# Altium footprint library burr-brown (2).PCBLIB: 61 footprints (part 3 of 4)
Each footprint in its own frame and in the unit in brackets; x right, y up, seen from the top. Pads: shape width x height; smd on the part's side, far side on the other; paste and mask are expansions set on the pad; w line width, h text height; cw(c..) or ccw(c..) is an arc to the next point about the centre after c.
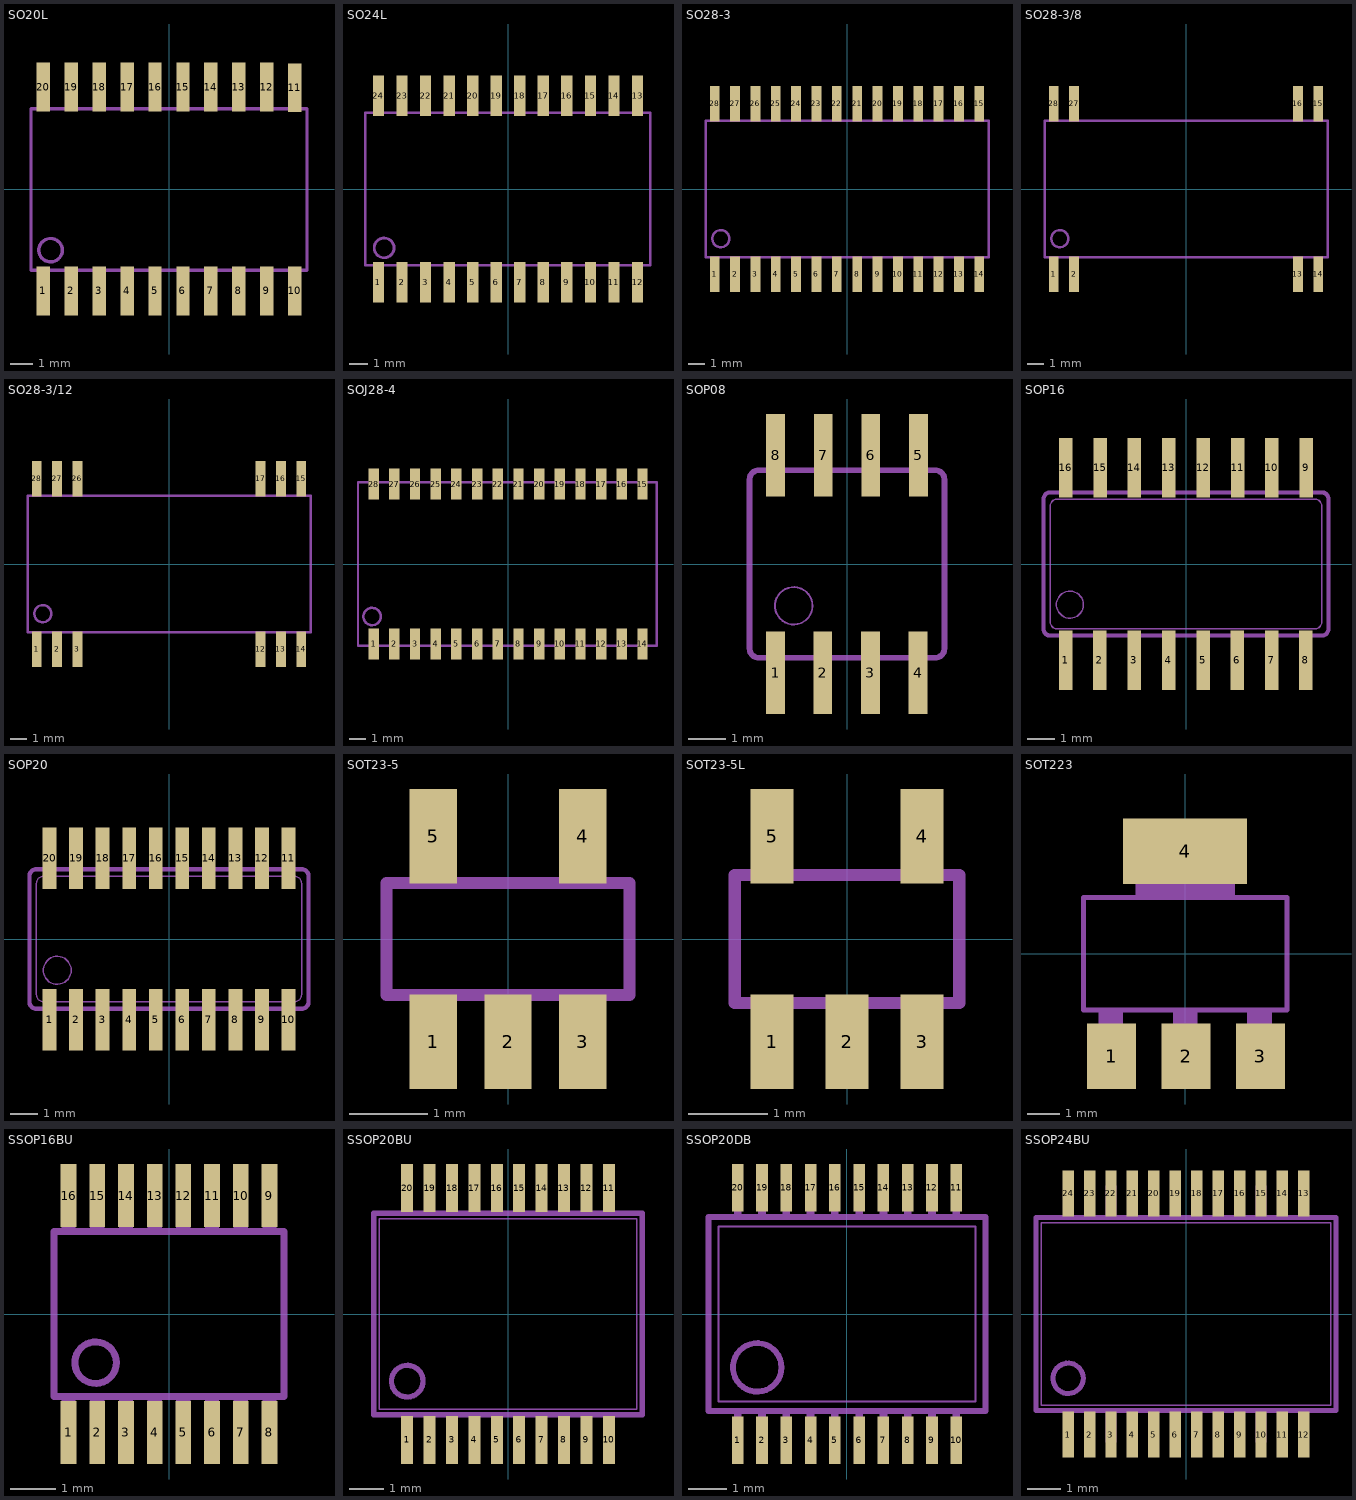
[diagram p2: the footprints below, top view; thin cyan lines are the x and y axes]

## SO20L [mil]
pads (20):
  rect 24x87 smd: 1(-225,-182.5) 2(-175,-182.5) 3(-125,-182.5) 4(-75,-182.5) 5(-25,-182.5) 6(25,-182.5) 7(75,-182.5) 8(125,-182.5) 9(175,-182.5) 10(225,-182.5) 11(225,181.5) 12(175,182.5) 13(125,182.5) 14(75,182.5) 15(25,182.5) 16(-25,182.5) 17(-75,182.5) 18(-125,182.5) 19(-175,182.5) 20(-225,182.5)
Mechanical 2:
  circle w6: c-212,-109.5 r21
  lines w6: -247.01,-145.51 -247.01,143.5 ; 247.01,-145.51 247.01,143.5
Mechanical 18:
  rectangle: 217,145.5 233,197.5
  rectangle: 167,145.5 183,197.5
  rectangle: 117,145.5 133,197.5
  rectangle: 67,145.5 83,197.5
  rectangle: 17,145.5 33,197.5
  rectangle: -33,145.5 -17,197.5
  rectangle: -83,145.5 -67,197.5
  rectangle: -133,145.5 -117,197.5
  rectangle: -183,145.5 -167,197.5
  rectangle: -233,145.5 -217,197.5
  rectangle: 217,-199.5 233,-147.5
  rectangle: 167,-199.5 183,-147.5
  rectangle: 117,-199.5 133,-147.5
  rectangle: 67,-199.5 83,-147.5
  rectangle: 17,-199.5 33,-147.5
  rectangle: -33,-199.5 -17,-147.5
  rectangle: -83,-199.5 -67,-147.5
  rectangle: -133,-199.5 -117,-147.5
  rectangle: -183,-199.5 -167,-147.5
  rectangle: -233,-199.5 -217,-147.5
  lines w6: -247.01,-145.51 247.01,-145.51 ; -247.01,143.5 247.01,143.5

## SO24L [mil]
pads (24):
  rect 24x87 smd: 1(-275,-198) 2(-225,-198) 3(-175,-198) 4(-125,-198) 5(-75,-198) 6(-25,-198) 7(25,-198) 8(75,-198) 9(125,-198) 10(175,-198) 11(225,-198) 12(275,-198) 13(275,198) 14(225,198) 15(175,198) 16(125,198) 17(75,198) 18(25,198) 19(-25,198) 20(-75,198) 21(-125,198) 22(-175,198) 23(-225,198) 24(-275,198)
Mechanical 2:
  circle w6: c-263,-125 r21
  lines w6: -302.99,-162.01 -302.99,162.01 ; 302.01,-162.01 302.01,162.01
Mechanical 18:
  rectangle: -285,-223 -265,-163
  rectangle: -235,-223 -215,-163
  rectangle: -185,-223 -165,-163
  rectangle: -135,-223 -115,-163
  rectangle: -85,-223 -65,-163
  rectangle: -35,-223 -15,-163
  rectangle: 15,-223 35,-163
  rectangle: 65,-223 85,-163
  rectangle: 115,-223 135,-163
  rectangle: 165,-223 185,-163
  rectangle: 215,-223 235,-163
  rectangle: 265,-223 285,-163
  rectangle: 265,163 285,223
  rectangle: 215,163 235,223
  rectangle: 165,163 185,223
  rectangle: 115,163 135,223
  rectangle: 65,163 85,223
  rectangle: 15,163 35,223
  rectangle: -35,163 -15,223
  rectangle: -85,163 -65,223
  rectangle: -135,163 -115,223
  rectangle: -185,163 -165,223
  rectangle: -235,163 -215,223
  rectangle: -285,163 -265,223
  lines w6: -302.99,-162.01 302.01,-162.01 ; -302.99,162.01 302.01,162.01

## SO28-3 [mil]
pads (28):
  rect 24.02x87.01 smd: 1(-325,-209.25) 2(-275,-209.25) 3(-225,-209.25) 4(-175,-209.25) 5(-125,-209.25) 6(-75,-209.25) 7(-25,-209.25) 8(25,-209.25) 9(75,-209.25) 10(125,-209.25) 11(175,-209.25) 12(225,-209.25) 13(275,-209.25) 14(325,-209.25) 15(325,209.25) 16(275,209.25) 17(225,209.25) 18(175,209.25) 19(125,209.25) 20(75,209.25) 21(25,209.25) 22(-25,209.25) 23(-75,209.25) 24(-125,209.25) 25(-175,209.25) 26(-225,209.25) 27(-275,209.25) 28(-325,209.25)
Mechanical 2:
  circle w6: c-310,-122 r21
  lines w6: -347.01,-167.24 -347.01,167.24 ; 347.99,-167.24 347.99,167.24
Mechanical 18:
  rectangle: -335,-228.25 -315,-168.25
  rectangle: -285,-228.25 -265,-168.25
  rectangle: -235,-228.25 -215,-168.25
  rectangle: -185,-228.25 -165,-168.25
  rectangle: -135,-228.25 -115,-168.25
  rectangle: -85,-228.25 -65,-168.25
  rectangle: -35,-228.25 -15,-168.25
  rectangle: 15,-228.25 35,-168.25
  rectangle: 65,-228.25 85,-168.25
  rectangle: 115,-228.25 135,-168.25
  rectangle: 165,-228.25 185,-168.25
  rectangle: 215,-228.25 235,-168.25
  rectangle: 265,-228.25 285,-168.25
  rectangle: 315,-228.25 335,-168.25
  rectangle: 315,168.25 335,228.25
  rectangle: 265,168.25 285,228.25
  rectangle: 215,168.25 235,228.25
  rectangle: 165,168.25 185,228.25
  rectangle: 115,168.25 135,228.25
  rectangle: 65,168.25 85,228.25
  rectangle: 15,168.25 35,228.25
  rectangle: -35,168.25 -15,228.25
  rectangle: -85,168.25 -65,228.25
  rectangle: -135,168.25 -115,228.25
  rectangle: -185,168.25 -165,228.25
  rectangle: -235,168.25 -215,228.25
  rectangle: -285,168.25 -265,228.25
  rectangle: -335,168.25 -315,228.25
  lines w6: -347.01,-167.24 347.99,-167.24 ; -347.01,167.24 347.99,167.24

## SO28-3/8 [mil]
pads (8):
  rect 24.02x87.01 smd: 1(-325,-209.25) 2(-275,-209.25) 13(275,-209.25) 14(325,-209.25) 15(325,209.25) 16(275,209.25) 27(-275,209.25) 28(-325,209.25)
Mechanical 2:
  circle w6: c-310,-122 r21
  lines w6: -347.01,-167.24 -347.01,167.24 ; -257.01,-167.24 257.99,-167.24 ; -257.01,167.24 252.99,167.24 ; 347.99,-167.24 347.99,167.24
Mechanical 18:
  rectangle: -335,-228.25 -315,-168.25
  rectangle: -285,-228.25 -265,-168.25
  rectangle: 265,-228.25 285,-168.25
  rectangle: 315,-228.25 335,-168.25
  rectangle: 315,168.25 335,228.25
  rectangle: 265,168.26 285,228.26
  rectangle: -285,168.26 -265,228.26
  rectangle: -335,168.25 -315,228.25
  lines w6: -347.01,-167.24 -257.01,-167.24 ; -347.01,167.24 -257.01,167.24 ; 252.99,167.24 347.99,167.24 ; 257.99,-167.24 347.99,-167.24

## SO28-3/12 [mil]
pads (12):
  rect 24.02x87.01 smd: 1(-325,-209.25) 2(-275,-209.25) 3(-225,-209.25) 12(225,-209.25) 13(275,-209.25) 14(325,-209.25) 15(325,209.25) 16(275,209.25) 17(225,209.25) 26(-225,209.25) 27(-275,209.25) 28(-325,209.25)
Mechanical 2:
  circle w6: c-310,-122 r21
  lines w6: -347.01,-167.24 -347.01,167.24 ; -207.01,-167.24 207.99,-167.24 ; -202.01,167.24 202.99,167.24 ; 347.99,-167.24 347.99,167.24
Mechanical 18:
  rectangle: -335,-228.25 -315,-168.25
  rectangle: -285,-228.25 -265,-168.25
  rectangle: -235,-228.25 -215,-168.25
  rectangle: 215,-228.25 235,-168.25
  rectangle: 265,-228.25 285,-168.25
  rectangle: 315,-228.25 335,-168.25
  rectangle: 315,168.25 335,228.25
  rectangle: 265,168.25 285,228.25
  rectangle: 215,168.25 235,228.25
  rectangle: -235,168.25 -215,228.25
  rectangle: -285,168.25 -265,228.25
  rectangle: -335,168.25 -315,228.25
  lines w6: -347.01,-167.24 -207.01,-167.24 ; -347.01,167.24 -202.01,167.24 ; 202.99,167.24 347.99,167.24 ; 207.99,-167.24 347.99,-167.24

## SOJ28-4 [mil]
pads (28):
  rect 25x75 smd: 1(-325,-193) 2(-275,-193) 3(-225,-193) 4(-175,-193) 5(-125,-193) 6(-75,-193) 7(-25,-193) 8(25,-193) 9(75,-193) 10(125,-193) 11(175,-193) 12(225,-193) 13(275,-193) 14(325,-193) 15(325,193) 16(275,193) 17(225,193) 18(175,193) 19(125,193) 20(75,193) 21(25,193) 22(-25,193) 23(-75,193) 24(-125,193) 25(-175,193) 26(-225,193) 27(-275,193) 28(-325,193)
Mechanical 2:
  circle w6: c-329,-127 r21
  lines w6: -339.02,-197.99 -362.99,-197.99 -362.99,197.99 -339.02,197.99 ; -310.98,-197.99 -289.02,-197.99 ; -310.98,197.99 -289.02,197.99 ; -260.98,-197.99 -239.02,-197.99 ; -260.98,197.99 -239.02,197.99 ; -210.98,-197.99 -189.02,-197.99 ; -210.98,197.99 -189.02,197.99 ; -160.98,-197.99 -139.02,-197.99 ; -160.98,197.99 -139.02,197.99 ; -110.98,-197.99 -89.02,-197.99 ; -110.98,197.99 -89.02,197.99 ; -60.98,-197.99 -39.02,-197.99 ; -60.98,197.99 -39.02,197.99 ; -10.98,-197.99 10.98,-197.99 ; -10.98,197.99 10.98,197.99 ; 39.02,-197.99 60.98,-197.99 ; 39.02,197.99 60.98,197.99 ; 89.02,-197.99 110.98,-197.99 ; 89.02,197.99 110.98,197.99 ; 139.02,-197.99 160.98,-197.99 ; 139.02,197.99 160.98,197.99 ; 189.02,-197.99 210.98,-197.99 ; 189.02,197.99 210.98,197.99 ; 239.02,-197.99 260.98,-197.99 ; 239.02,197.99 260.98,197.99 ; 289.02,-197.99 310.98,-197.99 ; 289.02,197.99 310.98,197.99 ; 339.02,-197.99 359.02,-197.99 359.02,197.99 339.02,197.99
Mechanical 18:
  rectangle: 315,200 335,220
  rectangle: 318,170 332,200
  rectangle: 315,-220 335,-200
  rectangle: 318,-200 332,-170
  rectangle: 265,200 285,220
  rectangle: 268,170 282,200
  rectangle: 215,200 235,220
  rectangle: 218,170 232,200
  rectangle: 165,200 185,220
  rectangle: 168,170 182,200
  rectangle: 115,200 135,220
  rectangle: 118,170 132,200
  rectangle: 65,200 85,220
  rectangle: 68,170 82,200
  rectangle: 15,200 35,220
  rectangle: 18,170 32,200
  rectangle: -35,200 -15,220
  rectangle: -32,170 -18,200
  rectangle: -185,200 -165,220
  rectangle: -182,170 -168,200
  rectangle: -135,200 -115,220
  rectangle: -132,170 -118,200
  rectangle: -85,200 -65,220
  rectangle: -82,170 -68,200
  rectangle: -235,200 -215,220
  rectangle: -232,170 -218,200
  rectangle: -285,200 -265,220
  rectangle: -282,170 -268,200
  rectangle: -335,200 -315,220
  rectangle: -332,170 -318,200
  rectangle: -335,-220 -315,-200
  rectangle: -332,-200 -318,-170
  rectangle: -285,-220 -265,-200
  rectangle: -282,-200 -268,-170
  rectangle: -235,-220 -215,-200
  rectangle: -232,-200 -218,-170
  rectangle: -185,-220 -165,-200
  rectangle: -182,-200 -168,-170
  rectangle: -135,-220 -115,-200
  rectangle: -132,-200 -118,-170
  rectangle: -85,-220 -65,-200
  rectangle: -82,-200 -68,-170
  rectangle: -35,-220 -15,-200
  rectangle: -32,-200 -18,-170
  rectangle: 15,-220 35,-200
  rectangle: 18,-200 32,-170
  rectangle: 65,-220 85,-200
  rectangle: 68,-200 82,-170
  rectangle: 115,-220 135,-200
  rectangle: 118,-200 132,-170
  rectangle: 165,-220 185,-200
  rectangle: 168,-200 182,-170
  rectangle: 215,-220 235,-200
  rectangle: 218,-200 232,-170
  rectangle: 265,-220 285,-200
  rectangle: 268,-200 282,-170
  lines w6: -339.02,-197.99 -310.98,-197.99 ; -339.02,197.99 -310.98,197.99 ; -289.02,-197.99 -260.98,-197.99 ; -289.02,197.99 -260.98,197.99 ; -239.02,-197.99 -210.98,-197.99 ; -239.02,197.99 -210.98,197.99 ; -189.02,-197.99 -160.98,-197.99 ; -189.02,197.99 -160.98,197.99 ; -139.02,-197.99 -110.98,-197.99 ; -139.02,197.99 -110.98,197.99 ; -89.02,-197.99 -60.98,-197.99 ; -89.02,197.99 -60.98,197.99 ; -39.02,-197.99 -10.98,-197.99 ; -39.02,197.99 -10.98,197.99 ; 10.98,-197.99 39.02,-197.99 ; 10.98,197.99 39.02,197.99 ; 60.98,-197.99 89.02,-197.99 ; 60.98,197.99 89.02,197.99 ; 110.98,-197.99 139.02,-197.99 ; 110.98,197.99 139.02,197.99 ; 160.98,-197.99 189.02,-197.99 ; 160.98,197.99 189.02,197.99 ; 210.98,-197.99 239.02,-197.99 ; 210.98,197.99 239.02,197.99 ; 260.98,-197.99 289.02,-197.99 ; 260.98,197.99 289.02,197.99 ; 310.98,-197.99 339.02,-197.99 ; 310.98,197.99 339.02,197.99

## SOP08 [mil]
pads (8):
  rect 19.69x86.61 smd: 1(-75,-114.17) 2(-25.39,-114.17) 3(24.61,-114.17) 4(74.61,-114.17) 5(75,114.17) 6(25,114.17) 7(-25,114.17) 8(-75,114.17)
Mechanical 2:
  circle w2: c-55.91,-43.9 r19.69
  lines w6: -102.36,-88.58 ccw(c-92.52,-88.58) -92.52,-98.43 ; -102.36,-88.19 -102.36,88.58 cw(c-92.52,88.58) -92.52,98.43 ; -92.13,-98.43 -87.99,-98.43 ; -92.13,98.43 -87.99,98.43 ; -61.61,-98.43 -38.39,-98.43 ; -61.61,98.43 -38.39,98.43 ; -12.01,-98.43 11.61,-98.43 ; -11.61,98.43 11.61,98.43 ; 37.99,-98.43 61.61,-98.43 ; 38.39,98.43 61.61,98.43 ; 87.6,-98.43 91.73,-98.43 ; 87.99,98.43 92.91,98.43 ; 92.52,-98.43 ccw(c92.52,-88.58) 102.36,-88.58 102.36,88.58 ccw(c92.52,88.58) 92.52,98.43
Mechanical 18:
  rectangle: -81.89,98.43 -68.11,133.86
  rectangle: -31.89,98.43 -18.11,133.86
  rectangle: 18.11,98.43 31.89,133.86
  rectangle: 68.11,98.43 81.89,133.86
  rectangle: 67.72,-133.86 81.5,-98.43
  rectangle: 17.72,-133.86 31.5,-98.43
  rectangle: -32.28,-133.86 -18.5,-98.43
  rectangle: -81.89,-133.86 -68.11,-98.43
  lines w6: -92.13,-98.43 92.91,-98.43 ; -92.13,98.43 92.91,98.43

## SOP16 [mil]
pads (16):
  rect 19.69x86.61 smd: 1(-175,-139.76) 2(-125.39,-139.76) 3(-75.39,-139.76) 4(-25.39,-139.76) 5(25,-139.76) 6(74.61,-139.76) 7(124.61,-139.76) 8(174.61,-139.76) 9(175,139.76) 10(125,139.76) 11(75,139.76) 12(25,139.76) 13(-25,139.76) 14(-75,139.76) 15(-125,139.76) 16(-175,139.76)
Mechanical 2:
  circle w2: c-168.9,-59.06 r19.69
  lines w2: -197.44,-84.76 -197.44,-84.64 ; -187.6,-94.48 cw(c-187.6,-84.64) -197.44,-84.64 ; -187.48,-94.49 187.6,-94.49 ccw(c187.6,-84.65) 197.44,-84.65 197.44,84.65 ccw(c187.6,84.65) 187.6,94.49 -187.56,94.49 ccw(c-187.6,84.65) -197.44,84.65 -197.44,-84.64
  lines w6: -198.82,104.33 -187.99,104.33 ; -197.44,-104.33 cw(c-197.54,-94.33) -197.64,-104.33 ; -197.44,104.33 ccw(c-197.44,94.49) -207.28,94.49 -207.28,-94.49 ccw(c-197.44,-94.49) -197.64,-104.33 ; -187.99,-104.33 -197.64,-104.33 ; -162.01,-104.33 -138.39,-104.33 ; -162.01,104.33 -137.99,104.33 ; -112.4,-104.33 -88.39,-104.33 ; -112.01,104.33 -87.99,104.33 ; -62.4,-104.33 -38.39,-104.33 ; -62.01,104.33 -37.99,104.33 ; -12.4,-104.33 12.01,-104.33 ; -12.01,104.33 12.01,104.33 ; 37.99,-104.33 61.61,-104.33 ; 37.99,104.33 62.01,104.33 ; 87.6,-104.33 111.61,-104.33 ; 87.99,104.33 112.01,104.33 ; 137.6,-104.33 161.61,-104.33 ; 137.99,104.33 162.01,104.33 ; 187.6,-104.33 197.24,-104.33 ; 187.99,104.33 197.64,104.33 ; 197.44,-104.33 ccw(c197.44,-94.49) 207.28,-94.49 207.28,94.49 ccw(c197.44,94.49) 197.64,104.33 ; 197.44,104.33 cw(c197.54,94.33) 197.64,104.33
Mechanical 18:
  rectangle: -182.87,104.33 -167.13,159.45
  rectangle: -132.87,104.33 -117.13,159.45
  rectangle: -82.87,104.33 -67.13,159.45
  rectangle: -32.87,104.33 -17.13,159.45
  rectangle: 17.13,104.33 32.87,159.45
  rectangle: 67.13,104.33 82.87,159.45
  rectangle: 117.13,104.33 132.87,159.45
  rectangle: 167.13,104.33 182.87,159.45
  rectangle: 166.73,-159.45 182.48,-104.33
  rectangle: 116.73,-159.45 132.48,-104.33
  rectangle: 66.73,-159.45 82.48,-104.33
  rectangle: 17.13,-159.45 32.87,-104.33
  rectangle: -33.27,-159.45 -17.52,-104.33
  rectangle: -83.27,-159.45 -67.52,-104.33
  rectangle: -133.27,-159.45 -117.52,-104.33
  rectangle: -182.87,-159.45 -167.13,-104.33
  lines w6: -197.44,-104.33 197.44,-104.33 ; -197.44,104.33 197.44,104.33

## SOP20 [mil]
pads (20):
  rect 19.69x86.61 smd: 1(-168.31,-114.17) 2(-130.91,-114.17) 3(-93.5,-114.17) 4(-56.1,-114.17) 5(-18.7,-114.17) 6(18.7,-114.17) 7(56.1,-114.17) 8(93.5,-114.17) 9(130.91,-114.17) 10(168.31,-114.17) 11(168.31,114.17) 12(130.91,114.17) 13(93.5,114.17) 14(56.1,114.17) 15(18.7,114.17) 16(-18.7,114.17) 17(-56.1,114.17) 18(-93.5,114.17) 19(-130.91,114.17) 20(-168.31,114.17)
Mechanical 2:
  circle w2: c-157.64,-44.21 r19.69
  lines w2: -187.01,-78.74 -187.01,78.74 ; -156.5,-88.58 -142.72,-88.58 ; -156.5,88.58 -142.72,88.58 ; -119.09,-88.58 -105.32,-88.58 ; -119.09,88.58 -105.32,88.58 ; -81.69,-88.58 -67.91,-88.58 ; -81.69,88.58 -67.91,88.58 ; -44.29,-88.58 -30.51,-88.58 ; -44.29,88.58 -30.51,88.58 ; -6.89,-88.58 6.89,-88.58 ; -6.89,88.58 6.89,88.58 ; 30.51,-88.58 44.29,-88.58 ; 30.51,88.58 44.29,88.58 ; 67.91,-88.58 81.69,-88.58 ; 67.91,88.58 81.69,88.58 ; 105.32,-88.58 119.09,-88.58 ; 105.32,88.58 119.09,88.58 ; 142.72,-88.58 156.5,-88.58 ; 142.72,88.58 156.5,88.58 ; 187.01,-78.74 187.01,78.74
  lines w6: -187.99,-98.43 -182.13,-98.43 ; -187.01,-98.43 cw(c-187,-88.58) -196.85,-88.58 -196.85,88.58 cw(c-187,88.58) -187.01,98.43 -182.13,98.43 ; -154.49,-98.43 -144.72,-98.43 ; -154.49,98.43 -144.72,98.43 ; -117.09,-98.43 -107.32,-98.43 ; -117.09,98.43 -107.32,98.43 ; -79.69,-98.43 -69.92,-98.43 ; -79.69,98.43 -69.92,98.43 ; -42.28,-98.43 -32.52,-98.43 ; -42.28,98.43 -32.52,98.43 ; -4.88,-98.43 4.88,-98.43 ; -4.88,98.43 4.88,98.43 ; 32.52,-98.43 42.28,-98.43 ; 32.52,98.43 42.28,98.43 ; 69.92,-98.43 79.69,-98.43 ; 69.92,98.43 79.69,98.43 ; 107.32,-98.43 117.09,-98.43 ; 107.32,98.43 117.09,98.43 ; 144.72,-98.43 154.49,-98.43 ; 144.72,98.43 154.49,98.43 ; 182.13,-98.43 187.01,-98.43 ccw(c187,-88.58) 196.85,-88.58 196.85,88.58 ccw(c187,88.58) 187.01,98.43 182.13,98.43
Mechanical 18:
  rectangle: -175.2,-133.86 -161.42,-98.43
  rectangle: -137.8,-133.86 -124.02,-98.43
  rectangle: -100.39,-133.86 -86.61,-98.43
  rectangle: -62.99,-133.86 -49.21,-98.43
  rectangle: -25.59,-133.86 -11.81,-98.43
  rectangle: 11.81,-133.86 25.59,-98.43
  rectangle: 49.21,-133.86 62.99,-98.43
  rectangle: 86.61,-133.86 100.39,-98.43
  rectangle: 124.02,-133.86 137.8,-98.43
  rectangle: 161.42,-133.86 175.2,-98.43
  rectangle: -175.2,98.43 -161.42,133.86
  rectangle: -137.8,98.43 -124.02,133.86
  rectangle: -100.39,98.43 -86.61,133.86
  rectangle: -62.99,98.43 -49.21,133.86
  rectangle: -25.59,98.43 -11.81,133.86
  rectangle: 11.81,98.43 25.59,133.86
  rectangle: 49.21,98.43 62.99,133.86
  rectangle: 86.61,98.43 100.39,133.86
  rectangle: 124.02,98.43 137.8,133.86
  rectangle: 161.42,98.43 175.2,133.86
  lines w2: -187.01,-78.66 ccw(c-177.17,-78.66) -177.17,-88.5 177.17,-88.5 ccw(c177.17,-78.66) 187.01,-78.66 ; -187.01,78.66 cw(c-177.17,78.66) -177.17,88.5 177.17,88.5 cw(c177.17,78.66) 187.01,78.66
  lines w6: -187.01,-98.43 187.01,-98.43 ; -187.01,98.43 187.01,98.43

## SOT23-5 [mil]
pads (5):
  rect 23.62x47.24 smd: 1(-37.4,-51.42) 2(0,-51.42) 3(37.4,-51.42) 4(37.4,51.42) 5(-37.4,51.42)
Mechanical 2:
  lines w6: -60.79,-28.03 60.79,-28.03 60.79,28.07 -60.79,28.07 -60.79,-28.03
Mechanical 18:
  rectangle: -46.75,28.06 -28.05,60.78
  rectangle: 28.05,28.06 46.75,60.78
  rectangle: -46.75,-60.78 -28.05,-28.05
  rectangle: -9.35,-60.78 9.35,-28.05
  rectangle: 28.05,-60.78 46.75,-28.05

## SOT23-5L [mil]
pads (5):
  rect 21.65x47.24 smd: 1(-37.4,-51.18) 2(0,-51.18) 3(37.4,-51.18) 4(37.4,51.18) 5(-37.4,51.18)
Mechanical 2:
  lines w6: -52.28,-31.89 -55.98,-31.89 -55.98,31.89 -52.28,31.89 ; -20.55,-31.89 -16.85,-31.89 ; -20.55,31.89 20.55,31.89 ; 16.85,-31.89 20.55,-31.89 ; 52.28,-31.89 55.98,-31.89 55.98,31.89 52.28,31.89
Mechanical 18:
  rectangle: -47.3,-59.07 -27.62,-33.48
  rectangle: -9.84,-59.09 9.84,-33.5
  rectangle: 27.62,-59.1 47.3,-33.51
  rectangle: 27.64,33.54 47.32,59.13
  rectangle: -47.32,33.54 -27.64,59.13
  lines w6: -55.98,-31.89 55.98,-31.89 ; -55.98,31.89 55.98,31.89

## SOT223 [mil]
pads (4):
  rect 59x79 smd: 1(-89,-124) 2(1,-124) 3(91,-124)
  rect 150x79 smd: 4(0,124)
Mechanical 2:
  lines w6: -122.99,-68.07 -122.99,68.15 122.99,68.15 122.99,-68.07 -122.99,-68.07
Mechanical 18:
  rectangle: -60,70 60,130
  rectangle: -105,-130 -75,-70
  rectangle: 75,-130 105,-70
  rectangle: -15,-130 15,-70

## SSOP16BU [mil]
pads (16):
  rect 13.7x55 smd: 1(-87.52,-103.11) 2(-62.52,-103.15) 3(-37.52,-103.15) 4(-12.52,-103.15) 5(12.52,-103.15) 6(37.52,-103.15) 7(62.52,-103.15) 8(87.52,-103.15) 9(87.52,103.15) 10(62.52,103.15) 11(37.52,103.15) 12(12.52,103.15) 13(-12.52,103.15) 14(-37.52,103.15) 15(-62.52,103.15) 16(-87.52,103.15)
Mechanical 2:
  circle w6: c-63.93,-42.39 r18.09
  lines w6: -100,-71.73 100,-71.73 100,71.73 -100,71.73 -100,-71.73
Mechanical 18:
  rectangle: -93.75,71.88 -81.25,109.38
  rectangle: -68.75,71.88 -56.25,109.38
  rectangle: -43.75,71.88 -31.25,109.38
  rectangle: -18.75,71.88 -6.25,109.38
  rectangle: 6.25,71.88 18.75,109.38
  rectangle: 31.25,71.88 43.75,109.38
  rectangle: 56.25,71.88 68.75,109.38
  rectangle: 81.25,71.88 93.75,109.38
  rectangle: -93.75,-109.37 -81.25,-71.87
  rectangle: -68.75,-109.37 -56.25,-71.87
  rectangle: -43.75,-109.37 -31.25,-71.87
  rectangle: -18.75,-109.37 -6.25,-71.87
  rectangle: 6.25,-109.37 18.75,-71.87
  rectangle: 31.25,-109.37 43.75,-71.87
  rectangle: 56.25,-109.37 68.75,-71.87
  rectangle: 81.25,-109.37 93.75,-71.87

## SSOP20BU [mil]
pads (20):
  rect 13.7x55 smd: 1(-115.16,-143.94) 2(-89.57,-143.94) 3(-63.98,-143.94) 4(-38.39,-143.94) 5(-12.8,-143.94) 6(12.8,-143.94) 7(38.39,-143.94) 8(63.98,-143.94) 9(89.57,-143.94) 10(115.16,-143.94) 11(115.16,143.94) 12(89.57,143.94) 13(63.98,143.94) 14(38.39,143.94) 15(12.8,143.94) 16(-12.8,143.94) 17(-38.39,143.94) 18(-63.98,143.94) 19(-89.57,143.94) 20(-115.16,143.94)
Mechanical 2:
  circle w6: c-115.16,-76.77 r18.09
  lines w6: -153.54,-115.16 153.54,-115.16 153.54,115.16 -153.54,115.16 -153.54,-115.16
Mechanical 6:
  lines w2: -147.17,-108.78 147.17,-108.78 147.17,108.78 -147.17,108.78 -147.17,-108.78
Mechanical 18:
  rectangle: -121.56,116.76 -108.76,153.54
  rectangle: -121.56,-153.54 -108.76,-116.76
  rectangle: -95.96,-153.54 -83.17,-116.76
  rectangle: -70.37,-153.54 -57.58,-116.76
  rectangle: -95.96,116.76 -83.17,153.54
  rectangle: -70.37,116.76 -57.58,153.54
  rectangle: -44.78,116.76 -31.99,153.54
  rectangle: -19.19,116.76 -6.4,153.54
  rectangle: 6.4,116.76 19.19,153.54
  rectangle: 31.99,116.76 44.78,153.54
  rectangle: 57.58,116.76 70.37,153.54
  rectangle: 83.17,116.76 95.96,153.54
  rectangle: 108.76,116.76 121.56,153.54
  rectangle: -44.78,-153.54 -31.99,-116.76
  rectangle: -19.19,-153.54 -6.4,-116.76
  rectangle: 6.4,-153.54 19.19,-116.76
  rectangle: 31.99,-153.54 44.78,-116.76
  rectangle: 57.58,-153.54 70.37,-116.76
  rectangle: 83.17,-153.54 95.96,-116.76
  rectangle: 108.76,-153.54 121.56,-116.76

## SSOP20DB [mil]
pads (20):
  rect 12.01x49.02 smd: 1(-112.48,-130) 2(-87.48,-130) 3(-62.48,-130) 4(-37.48,-130) 5(-12.48,-130) 6(12.52,-130) 7(37.52,-130) 8(62.52,-130) 9(87.52,-130) 10(112.52,-130) 11(112.52,130) 12(87.52,130) 13(62.52,130) 14(37.52,130) 15(12.52,130) 16(-12.48,130) 17(-37.48,130) 18(-62.48,130) 19(-87.48,130) 20(-112.48,130)
Mechanical 2:
  circle w6: c-92.48,-55 r25
  lines w2: -132.48,-90 132.52,-90 132.52,90 -132.48,90 -132.48,-90
  lines w6: -142.48,-100 142.52,-100 142.52,100 -142.48,100 -142.48,-100
Mechanical 18:
  rectangle: 108.52,102 116.52,135
  rectangle: 83.52,102 91.52,135
  rectangle: 58.52,102 66.52,135
  rectangle: 33.52,102 41.52,135
  rectangle: 8.52,102 16.52,135
  rectangle: -16.48,102 -8.48,135
  rectangle: -41.48,102 -33.48,135
  rectangle: -66.48,102 -58.48,135
  rectangle: -91.48,102 -83.48,135
  rectangle: -116.48,102 -108.48,135
  rectangle: -116.48,-135 -108.48,-102
  rectangle: -91.48,-135 -83.48,-102
  rectangle: -66.48,-135 -58.48,-102
  rectangle: -41.48,-135 -33.48,-102
  rectangle: -16.48,-135 -8.48,-102
  rectangle: 8.52,-135 16.52,-102
  rectangle: 33.52,-135 41.52,-102
  rectangle: 58.52,-135 66.52,-102
  rectangle: 83.52,-135 91.52,-102
  rectangle: 108.52,-135 116.52,-102

## SSOP24BU [mil]
pads (24):
  rect 13.7x55 smd: 1(-140.75,-143.94) 2(-115.16,-143.94) 3(-89.57,-143.94) 4(-63.98,-143.94) 5(-38.39,-143.94) 6(-12.8,-143.94) 7(12.8,-143.94) 8(38.39,-143.94) 9(63.98,-143.94) 10(89.57,-143.94) 11(115.16,-143.94) 12(140.75,-143.94) 13(140.75,143.94) 14(115.16,143.94) 15(89.57,143.94) 16(63.98,143.94) 17(38.39,143.94) 18(12.8,143.94) 19(-12.8,143.94) 20(-38.39,143.94) 21(-63.98,143.94) 22(-89.57,143.94) 23(-115.16,143.94) 24(-140.75,143.94)
Mechanical 2:
  circle w6: c-140.75,-76.77 r18.09
  lines w6: -179.13,-115.16 179.13,-115.16 179.13,115.16 -179.13,115.16 -179.13,-115.16
Mechanical 6:
  lines w2: -172.76,-108.78 172.76,-108.78 172.76,108.78 -172.76,108.78 -172.76,-108.78
Mechanical 18:
  rectangle: -147.15,116.76 -134.35,153.54
  rectangle: -147.15,-153.54 -134.35,-116.76
  rectangle: -121.56,-153.54 -108.76,-116.76
  rectangle: -95.96,-153.54 -83.17,-116.76
  rectangle: -121.56,116.76 -108.76,153.54
  rectangle: -95.96,116.76 -83.17,153.54
  rectangle: -70.37,116.76 -57.58,153.54
  rectangle: -44.78,116.76 -31.99,153.54
  rectangle: -19.19,116.76 -6.4,153.54
  rectangle: 6.4,116.76 19.19,153.54
  rectangle: 31.99,116.76 44.78,153.54
  rectangle: 57.58,116.76 70.37,153.54
  rectangle: 83.17,116.76 95.96,153.54
  rectangle: 108.76,116.76 121.56,153.54
  rectangle: 134.35,116.76 147.15,153.54
  rectangle: -70.37,-153.54 -57.58,-116.76
  rectangle: -44.78,-153.54 -31.99,-116.76
  rectangle: -19.19,-153.54 -6.4,-116.76
  rectangle: 6.4,-153.54 19.19,-116.76
  rectangle: 31.99,-153.54 44.78,-116.76
  rectangle: 57.58,-153.54 70.37,-116.76
  rectangle: 83.17,-153.54 95.96,-116.76
  rectangle: 108.76,-153.54 121.56,-116.76
  rectangle: 134.35,-153.54 147.15,-116.76